# Altium footprint library Footprints_IC.PcbLib: 13 footprints
Each footprint in its own frame and in the unit in brackets; x right, y up, seen from the top. Pads: shape width x height; smd on the part's side, far side on the other; paste and mask are expansions set on the pad; w line width, h text height; cw(c..) or ccw(c..) is an arc to the next point about the centre after c.
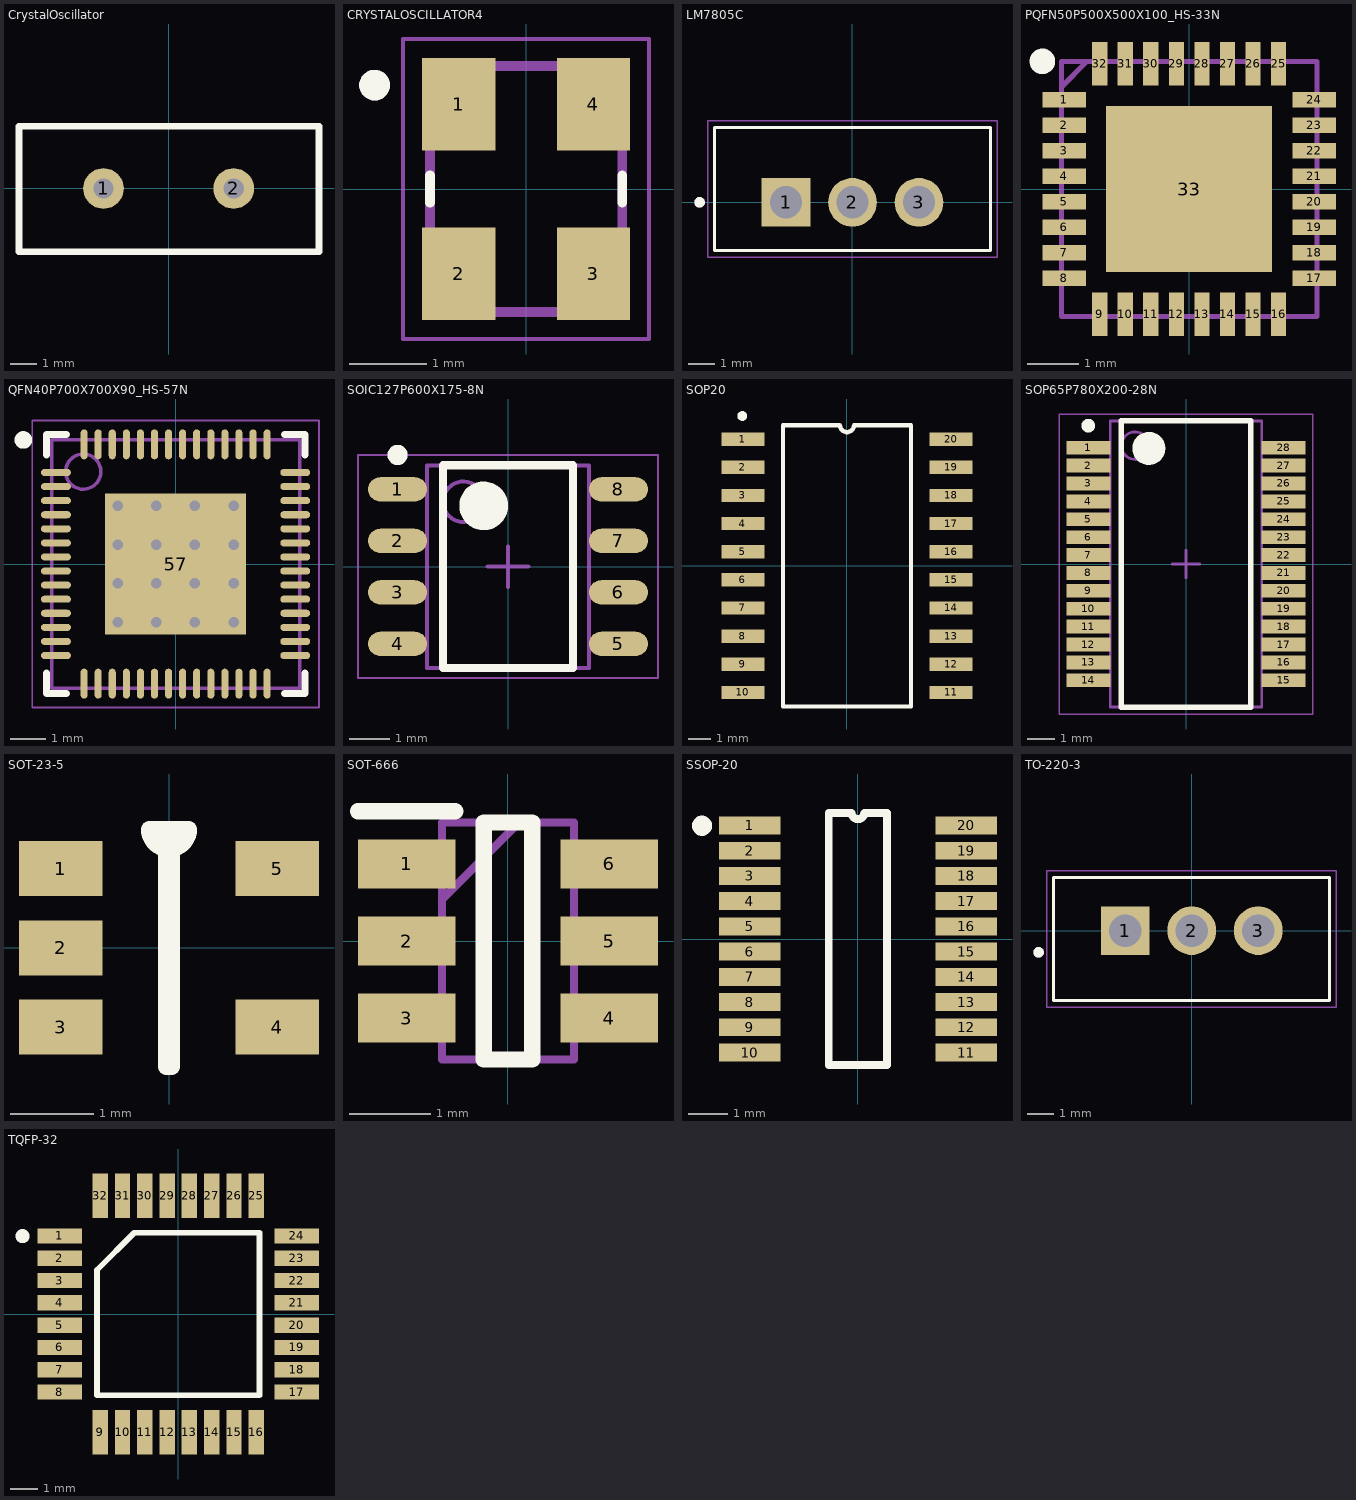
[diagram p0: the footprints below, top view; thin cyan lines are the x and y axes]

## CrystalOscillator [mil] "Crystal Oscillator THT"
pads (2):
  round 60 hole 30: 1(-96.06,0) 2(96.06,0)
Top Overlay:
  lines w10: -220.87,0 -220.87,91.73 ; -220.87,91.73 222.05,91.73 222.05,-93.31 -220.87,-93.31 -220.87,91.73
3D body "crystal oscillator.STEP": height 138.3, standoff -117.61, extent -217.52,-91.54 217.52,91.54

## CRYSTALOSCILLATOR4 [mm]
pads (4):
  rect 0.95x1.2 smd: 1(-0.875,1.1) 2(-0.875,-1.1) 3(0.875,-1.1) 4(0.875,1.1)
Top Overlay:
  circle w0.2: c-1.97,1.35 r0.1
  lines w0.127: -1.25,-0.18 -1.25,0.18 ; 1.25,-0.18 1.25,0.18
Mechanical 13:
  circle w0.2: c-1.97,1.35 r0.1
  lines w0.127: -1.25,-1.6 -1.25,1.6 1.25,1.6 1.25,-1.6 -1.25,-1.6
Mechanical 15:
  lines w0.05: -1.6,-1.95 1.6,-1.95 1.6,1.95 -1.6,1.95 -1.6,-1.95
3D body "ECS-327ATQMV-AS-TR.stp": height 1.1, standoff 0, extent -1.255,-1.605 1.255,1.605

## LM7805C [mm]
pads (3):
  rect 1.86x1.86 / inner round 1.86 / far side rect 1.86x1.86 hole 1.24: 1(-2.54,0)
  round 1.86 hole 1.24: 2(0,0) 3(2.54,0)
Top Overlay:
  circle w0.2: c-5.84,0 r0.1
  lines w0.127: -5.27,-1.84 5.27,-1.84 5.27,2.86 -5.27,2.86 -5.27,-1.84
Mechanical 13:
  circle w0.2: c-5.84,0 r0.1
  lines w0.127: -5.27,-1.84 5.27,-1.84 5.27,2.86 -5.27,2.86 -5.27,-1.84
Mechanical 15:
  lines w0.05: -5.52,-2.09 5.52,-2.09 5.52,3.11 -5.52,3.11 -5.52,-2.09
3D body "7805ISO_90.SLDPRT": height 4.58, standoff -7.27, extent -5,0 5,19.532

## PQFN50P500X500X100_HS-33N [mm] "PQFN, 32-Leads, Body 5.00x5.00mm, Pitch 0.50mm, Thermal Pad 3.10x3.10mm, IPC Medium Density"
height 1
pads (33):
  rect 0.85x0.3 smd mask+0.04: 1(-2.45,1.75) 2(-2.45,1.25) 3(-2.45,0.75) 4(-2.45,0.25) 5(-2.45,-0.25) 6(-2.45,-0.75) 7(-2.45,-1.25) 8(-2.45,-1.75) 17(2.45,-1.75) 18(2.45,-1.25) 19(2.45,-0.75) 20(2.45,-0.25) 21(2.45,0.25) 22(2.45,0.75) 23(2.45,1.25) 24(2.45,1.75)
  rect 0.3x0.85 smd mask+0.04: 9(-1.75,-2.45) 10(-1.25,-2.45) 11(-0.75,-2.45) 12(-0.25,-2.45) 13(0.25,-2.45) 14(0.75,-2.45) 15(1.25,-2.45) 16(1.75,-2.45) 25(1.75,2.45) 26(1.25,2.45) 27(0.75,2.45) 28(0.25,2.45) 29(-0.25,2.45) 30(-0.75,2.45) 31(-1.25,2.45) 32(-1.75,2.45)
  rect 3.25x3.25 smd mask+0.05: 33(0,0)
Top Overlay:
  circle w0.25: c-2.875,2.5 r0.125
Mechanical 15:
  lines w0.1: -2.5,2 -2,2.5 ; -2.5,-2.5 2.5,-2.5 2.5,2.5 -2.5,2.5 -2.5,-2.5
3D body "MFRC52202HN1,115.stp": height 1, standoff 0, extent -2.55,-2.55 2.55,2.55

## QFN40P700X700X90_HS-57N [mm] "QFN, 56-Leads, Body 7.00x7.00mm, Pitch 0.40mm, Thermal Pad 4.00x4.00mm, IPC Medium Density"
height 0.9
pads (57):
  oval 0.85x0.2 smd mask+0.05: 1(-3.4,2.6) 2(-3.4,2.2) 3(-3.4,1.8) 4(-3.4,1.4) 5(-3.4,1) 6(-3.4,0.6) 7(-3.4,0.2) 8(-3.4,-0.2) 9(-3.4,-0.6) 10(-3.4,-1) 11(-3.4,-1.4) 12(-3.4,-1.8) 13(-3.4,-2.2) 14(-3.4,-2.6) 29(3.4,-2.6) 30(3.4,-2.2) 31(3.4,-1.8) 32(3.4,-1.4) 33(3.4,-1) 34(3.4,-0.6) 35(3.4,-0.2) 36(3.4,0.2) 37(3.4,0.6) 38(3.4,1) 39(3.4,1.4) 40(3.4,1.8) 41(3.4,2.2) 42(3.4,2.6)
  oval 0.2x0.85 smd mask+0.05: 15(-2.6,-3.4) 16(-2.2,-3.4) 17(-1.8,-3.4) 18(-1.4,-3.4) 19(-1,-3.4) 20(-0.6,-3.4) 21(-0.2,-3.4) 22(0.2,-3.4) 23(0.6,-3.4) 24(1,-3.4) 25(1.4,-3.4) 26(1.8,-3.4) 27(2.2,-3.4) 28(2.6,-3.4) 43(2.6,3.4) 44(2.2,3.4) 45(1.8,3.4) 46(1.4,3.4) 47(1,3.4) 48(0.6,3.4) 49(0.2,3.4) 50(-0.2,3.4) 51(-0.6,3.4) 52(-1,3.4) 53(-1.4,3.4) 54(-1.8,3.4) 55(-2.2,3.4) 56(-2.6,3.4)
  rect 4x4 smd: 57(0,0)
via 1.65,-1.65 diameter 0.6 hole 0.3
via 0.55,-1.65 diameter 0.6 hole 0.3
via -0.55,-1.65 diameter 0.6 hole 0.3
via -1.65,-1.65 diameter 0.6 hole 0.3
via 1.65,-0.55 diameter 0.6 hole 0.3
via 0.55,-0.55 diameter 0.6 hole 0.3
via -0.55,-0.55 diameter 0.6 hole 0.3
via -1.65,-0.55 diameter 0.6 hole 0.3
via 1.65,0.55 diameter 0.6 hole 0.3
via 0.55,0.55 diameter 0.6 hole 0.3
via -0.55,0.55 diameter 0.6 hole 0.3
via -1.65,0.55 diameter 0.6 hole 0.3
via 1.65,1.65 diameter 0.6 hole 0.3
via 0.55,1.65 diameter 0.6 hole 0.3
via -0.55,1.65 diameter 0.6 hole 0.3
via -1.65,1.65 diameter 0.6 hole 0.3
Top Overlay:
  circle w0.25: c-4.325,3.525 r0.125
  lines w0.2: -3.675,-3.1 -3.675,-3.675 -3.1,-3.675 ; -3.675,3.1 -3.675,3.675 -3.1,3.675 ; 3.1,-3.675 3.675,-3.675 3.675,-3.1 ; 3.1,3.675 3.675,3.675 3.675,3.1
Mechanical 13:
  circle w0.1: c-2.625,2.625 r0.5
  lines w0.1: -3.525,-3.525 3.525,-3.525 3.525,3.525 -3.525,3.525 -3.525,-3.525
Mechanical 15:
  lines w0.05: -4.075,-4.075 4.075,-4.075 4.075,4.075 -4.075,4.075 -4.075,-4.075
  lines w0.1: -0.5,0 0.5,0 ; 0,-0.5 0,0.5
3D body "IC_IRPS5401MTRPBF.step": height 0.86, standoff -0.04, extent -3.5,-3.5 3.5,3.5

## SOIC127P600X175-8N [mm] "SOIC, 8-Leads, Body 4.90x3.90mm, Pitch 1.27mm, IPC Medium Density"
height 1.75
pads (8):
  oval 1.45x0.6 smd: 1(-2.725,1.905) 2(-2.725,0.635) 3(-2.725,-0.635) 4(-2.725,-1.905) 5(2.725,-1.905) 6(2.725,-0.635) 7(2.725,0.635) 8(2.725,1.905)
Top Overlay:
  circle w0.6: c-0.6,1.5 r0.3
  circle w0.25: c-2.725,2.755 r0.125
  lines w0.2: -1.6,-2.5 1.6,-2.5 1.6,2.5 -1.6,2.5 -1.6,-2.5
Mechanical 13:
  circle w0.1: c-1.1,1.6 r0.5
  lines w0.1: -2,-2.5 2,-2.5 2,2.5 -2,2.5 -2,-2.5
Mechanical 15:
  lines w0.05: -3.7,-2.75 3.7,-2.75 3.7,2.75 -3.7,2.75 -3.7,-2.75
  lines w0.1: -0.5,0 0.5,0 ; 0,-0.5 0,0.5
3D body "W25X20CLSNIG.stp": height 1.36, standoff -0.03, extent -2.9,-2.4 2.9,2.4

## SOP20 [mm]
pads (20):
  rect 1.95x0.6 smd mask+0.05: 1(-4.7,5.715) 2(-4.7,4.445) 3(-4.7,3.175) 4(-4.7,1.905) 5(-4.7,0.635) 6(-4.7,-0.635) 7(-4.7,-1.905) 8(-4.7,-3.175) 9(-4.7,-4.445) 10(-4.7,-5.715) 11(4.7,-5.715) 12(4.7,-4.445) 13(4.7,-3.175) 14(4.7,-1.905) 15(4.7,-0.635) 16(4.7,0.635) 17(4.7,1.905) 18(4.7,3.175) 19(4.7,4.445) 20(4.7,5.715)
Top Overlay:
  circle w0.254: c-4.73,6.76 r0.091
  lines w0.2: -2.89,-6.35 -2.89,6.35 -0.318,6.35 ccw(c0,6.35) 0.318,6.35 2.89,6.35 2.89,-6.35 -2.89,-6.35
3D body "PIC18F15Q40-I_SO.stp": height 2.65, standoff 0, extent -5.15,-6.4 5.15,6.4

## SOP65P780X200-28N [mm] "SOP, 28-Leads, Body 10.20x5.30mm, Pitch 0.65mm, IPC Medium Density"
height 2
pads (28):
  rect 1.6x0.5 smd mask+0.05: 1(-3.55,4.225) 2(-3.55,3.575) 3(-3.55,2.925) 4(-3.55,2.275) 5(-3.55,1.625) 6(-3.55,0.975) 7(-3.55,0.325) 8(-3.55,-0.325) 9(-3.55,-0.975) 10(-3.55,-1.625) 11(-3.55,-2.275) 12(-3.55,-2.925) 13(-3.55,-3.575) 14(-3.55,-4.225) 15(3.55,-4.225) 16(3.55,-3.575) 17(3.55,-2.925) 18(3.55,-2.275) 19(3.55,-1.625) 20(3.55,-0.975) 21(3.55,-0.325) 22(3.55,0.325) 23(3.55,0.975) 24(3.55,1.625) 25(3.55,2.275) 26(3.55,2.925) 27(3.55,3.575) 28(3.55,4.225)
Top Overlay:
  circle w0.6: c-1.35,4.2 r0.3
  circle w0.25: c-3.55,5.025 r0.125
  lines w0.2: -2.35,-5.2 2.35,-5.2 2.35,5.2 -2.35,5.2 -2.35,-5.2
Mechanical 13:
  circle w0.1: c-1.85,4.3 r0.5
  lines w0.1: -2.75,-5.2 2.75,-5.2 2.75,5.2 -2.75,5.2 -2.75,-5.2
Mechanical 15:
  lines w0.05: -4.6,-5.45 4.6,-5.45 4.6,5.45 -4.6,5.45 -4.6,-5.45
  lines w0.1: -0.5,0 0.5,0 ; 0,-0.5 0,0.5
3D body "FT232RNL-REEL.stp": height 2, standoff 0, extent -3.9,-5.1 3.9,5.1

## SOT-23-5 [mm]
pads (5):
  rect 1x0.66 smd mask+0.05: 1(-1.3,0.95) 2(-1.3,0) 3(-1.3,-0.95) 4(1.3,-0.95) 5(1.3,0.95)
Top Overlay:
  lines w0.2: -0.238,1.425 ccw(c0,1.425) 0.238,1.425 -0.035,1.425 -0.035,-1.425 0.035,-1.425 0.035,1.425 -0.238,1.425
3D body "MIC5504-3.3YM5-TR.stp": height 1.45, standoff 0, extent -1.4,-1.45 1.4,1.45

## SOT-666 [mm]
pads (6):
  rect 1.2x0.6 smd mask+0.05: 1(-1.25,0.95) 2(-1.25,0) 3(-1.25,-0.95) 4(1.25,-0.95) 5(1.25,0) 6(1.25,0.95)
Top Overlay:
  lines w0.2: -1.85,1.6 -0.65,1.6 ; -0.3,-1.462 0.3,-1.462 0.3,1.462 -0.3,1.462 -0.3,-1.462
Mechanical 15:
  lines w0.1: -0.812,0.512 0.138,1.462 ; -0.812,-1.462 0.812,-1.462 0.812,1.462 -0.812,1.462 -0.812,-1.462
3D body "USBLC6-2SC6.stp": height 1.45, standoff 0, extent -1.4,-1.462 1.4,1.462

## SSOP-20 [mm]
pads (20):
  rect 1.55x0.45 smd mask+0.05: 1(-2.724,2.857) 2(-2.724,2.222) 3(-2.724,1.587) 4(-2.724,0.953) 5(-2.724,0.318) 6(-2.724,-0.318) 7(-2.724,-0.953) 8(-2.724,-1.587) 9(-2.724,-2.222) 10(-2.724,-2.857) 11(2.724,-2.857) 12(2.724,-2.222) 13(2.724,-1.587) 14(2.724,-0.953) 15(2.724,-0.318) 16(2.724,0.318) 17(2.724,0.953) 18(2.724,1.587) 19(2.724,2.222) 20(2.724,2.857)
Top Overlay:
  circle w0.254: c-3.925,2.85 r0.127
  lines w0.2: -0.735,-3.175 0.735,-3.175 0.735,3.175 0.159,3.175 cw(c0,3.175) -0.159,3.175 -0.735,3.175 -0.735,-3.175
3D body "FT231XS-U.stp": height 1.75, standoff 0, extent -2.997,-4.324 2.997,4.324

## TO-220-3 [mm]
pads (3):
  rect 1.86x1.86 / inner round 1.86 / far side rect 1.86x1.86 hole 1.24: 1(-2.54,0)
  round 1.86 hole 1.24: 2(0,0) 3(2.54,0)
Top Overlay:
  circle w0.2: c-5.85,-0.83 r0.1
  lines w0.127: -5.28,-2.67 5.26,-2.67 5.26,2.03 -5.28,2.03 -5.28,-2.67
Mechanical 13:
  circle w0.2: c-5.85,-0.83 r0.1
  lines w0.127: -5.28,2.03 -5.28,-2.67 5.26,-2.67 5.26,2.03
Mechanical 15:
  lines w0.05: -5.53,-2.92 5.51,-2.92 5.51,2.28 -5.53,2.28 -5.53,-2.92
3D body "LD1117AV33.step": height 15.89, standoff -14.69, extent -5.15,-2.632 5.15,1.94

## TQFP-32 [mm]
pads (32):
  rect 1.6x0.55 smd mask+0.05: 1(-4.25,2.8) 2(-4.25,2) 3(-4.25,1.2) 4(-4.25,0.4) 5(-4.25,-0.4) 6(-4.25,-1.2) 7(-4.25,-2) 8(-4.25,-2.8) 17(4.25,-2.8) 18(4.25,-2) 19(4.25,-1.2) 20(4.25,-0.4) 21(4.25,0.4) 22(4.25,1.2) 23(4.25,2) 24(4.25,2.8)
  rect 0.55x1.6 smd mask+0.05: 9(-2.8,-4.25) 10(-2,-4.25) 11(-1.2,-4.25) 12(-0.4,-4.25) 13(0.4,-4.25) 14(1.2,-4.25) 15(2,-4.25) 16(2.8,-4.25) 25(2.8,4.25) 26(2,4.25) 27(1.2,4.25) 28(0.4,4.25) 29(-0.4,4.25) 30(-1.2,4.25) 31(-2,4.25) 32(-2.8,4.25)
Top Overlay:
  circle w0.254: c-5.588,2.794 r0.127
  lines w0.2: -2.915,-2.915 2.915,-2.915 2.915,2.915 -1.58,2.915 -2.915,1.58 -2.915,-2.915
3D body "ATMEGA328-AU.stp": height 1.2, standoff 0, extent -4.5,-4.5 4.5,4.5